# EAGLE library part LT1074 (library IC - PMIC - Vreg - DC-DC)
LT1074 Step-Down Switching Regulator 5A Onboard Switch Operates up to 60V Input 100kHz switching frequency Only 8.5mA quiescent current Efficiency up to 88% (Vin=20V, Vout=12V @3A) Buck Vout from 2.5V to 50V Positive-Negative converter Negative boost converter Multi-out buck converter Only requires a Schottky diode, inductor, and a few caps and resistive voltage divider.
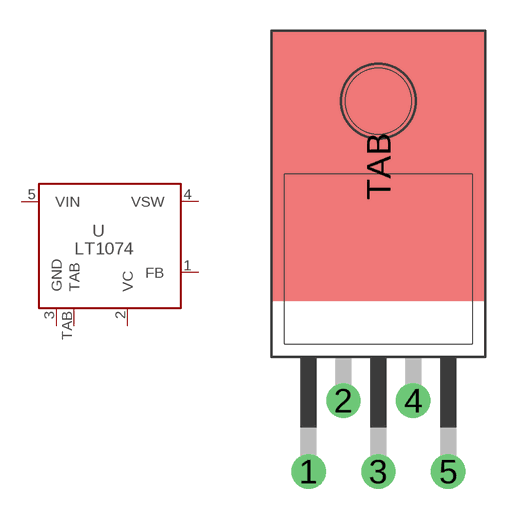
[diagram p0: symbol with the pads of TO-220-5; footprint TO-220-5]

Designator prefix U

## LT1074  [TO-220-5]
1  FB
2  VC
3  GND
4  VSW
5  VIN
TAB  TAB

## Footprint TO-220-5 (pad centres in mm)
TO 220 horizontal
drill 1.118: 1 -3.404,-6.858; 2 -1.702,-3.404; 3 0,-6.858; 4 1.702,-3.404; 5 3.404,-6.858
smd 10.5 x 13.1: TAB 0,8
hole 3.2 at 0,11.176